# Altium footprint library rlc-th.PcbLib: 65 footprints (part 5 of 5)
Each footprint in its own frame and in the unit in brackets; x right, y up, seen from the top. Pads: shape width x height; smd on the part's side, far side on the other; paste and mask are expansions set on the pad; w line width, h text height; cw(c..) or ccw(c..) is an arc to the next point about the centre after c.
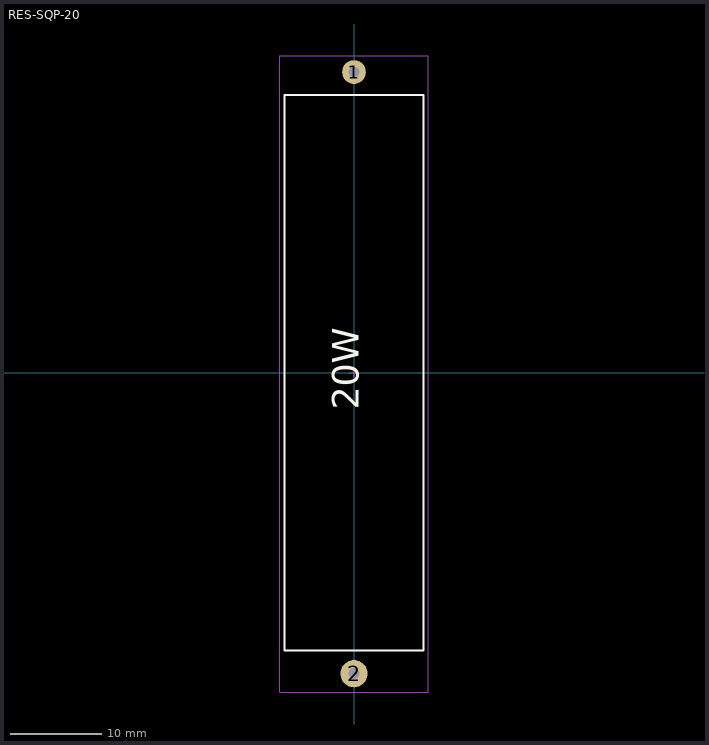
[diagram p4: the footprint, top view; thin cyan lines are the x and y axes]

## RES-SQP-20 [mm] "QFN, 4-Leads, Body 7,50x5,00mm, Pitch 6,00mm/2,54mm, IPC Medium Density"
height 1.2
pads (2):
  round 2.6 hole 1.2: 1(0,33.02)
  round 3 hole 1.2: 2(0,-33.02)
Top Overlay:
  lines w0.2: -7.62,-30.48 -7.62,30.48 7.62,30.48 7.62,-30.48 -7.62,-30.48
  text "20W" at 1.524,-4.064 h5
Mechanical 13:
  lines w0.1: -8.128,-35.052 8.128,-35.052 8.128,34.798 -8.128,34.798 -8.128,-35.052
  text ".Designator" at -1.27,4.826 h3
Mechanical 15:
  lines w0.05: -8.128,-35.052 -8.128,34.798 8.128,34.798 8.128,-35.052 -8.128,-35.052
  lines w0.1: -0.5,0 0.5,0 ; 0,-0.5 0,0.5
3D body: height 13, standoff 0, extent -7.62,-30.48 7.62,30.48